# Altium schematic symbol library TPS763.SchLib: 2 symbols
Pins are listed as number, name and electrical type; pins without a type are passive.

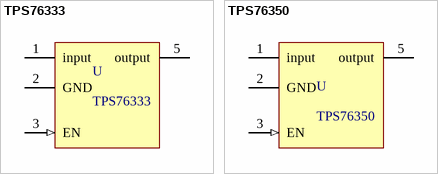
[diagram p0: symbols TPS76333 to TPS76350]

## TPS76333
designator U
V REG LDO 0.15A 3.3V, SMD, 76333; farnell: 8461376
pins: 1 input (power), 2 GND (power), 3 EN (in), 5 output (power)

## TPS76350
designator U
V REG LDO 0.15A 5.0V, SMD, 76350; farnell: 8461384
pins: 1 input (power), 2 GND (power), 3 EN (in), 5 output (power)